# EAGLE library part 39-30-?18?_S (library con-molex-mini-fit)
HEADER
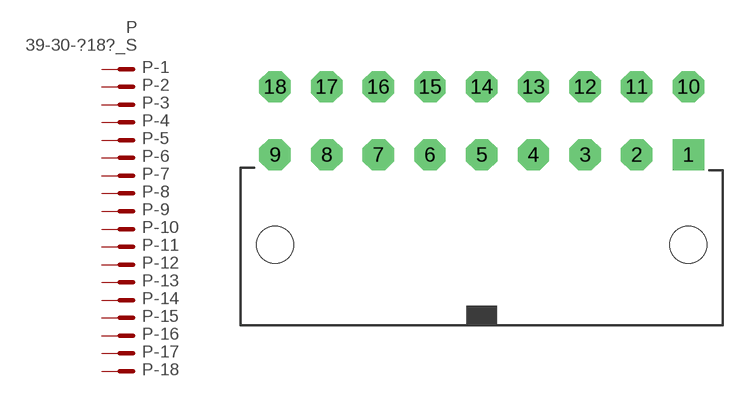
[diagram p16: symbol with the pads of 39-30-?18?; footprint 39-30-?18?]

Designator prefix P; gates -1=P-NV -2=P-N -3=P-N -4=P-N -5=P-N -6=P-N -7=P-N -8=P-N -9=P-N -10=P-N -11=P-N -12=P-N -13=P-N -14=P-N -15=P-N -16=P-N -17=P-N -18=P-N

## 39-30-18_S  [39-30-?18?]
1  -1:P  pas
2  -2:P  pas
3  -3:P  pas
4  -4:P  pas
5  -5:P  pas
6  -6:P  pas
7  -7:P  pas
8  -8:P  pas
9  -9:P  pas
10  -10:P  pas
11  -11:P  pas
12  -12:P  pas
13  -13:P  pas
14  -14:P  pas
15  -15:P  pas
16  -16:P  pas
17  -17:P  pas
18  -18:P  pas

## Footprint 39-30-?18? (pad centres in mm)
HEADER
drill 1.422 pad 2.54 square: 1 16.764,0
drill 1.422 pad 2.54 octagon: 2 12.573,0; 3 8.382,0; 4 4.191,0; 5 0,0; 6 -4.191,0; 7 -8.382,0; 8 -12.573,0; 9 -16.764,0; 10 16.764,5.512; 11 12.573,5.512; 12 8.382,5.512; 13 4.191,5.512; 14 0,5.512; 15 -4.191,5.512; 16 -8.382,5.512; 17 -12.573,5.512; 18 -16.764,5.512
hole 3 at -16.764,-7.3
hole 3 at 16.764,-7.3